# Altium schematic symbol library MCU_MICROCHIP_SAM.SchLib: 3 symbols
Pins are listed as number, name and electrical type; pins without a type are passive.

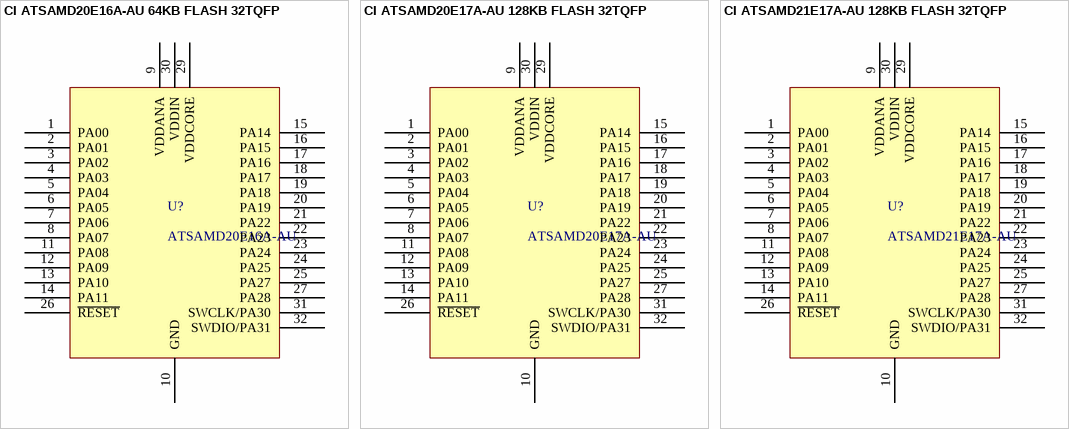
[diagram p0: symbols CI ATSAMD20E16A-AU 64KB FLASH 32TQFP to CI ATSAMD21E17A-AU 128KB FLASH 32TQFP]

## CI ATSAMD20E16A-AU 64KB FLASH 32TQFP
designator U?, comment ATSAMD20E16A-AU
ARM® Cortex®-M0+ SAM D20E Microcontroller IC 32-Bit 48MHz 64KB (64K x 8) FLASH 32-TQFP (7x7); Manufacturer 1: Microchip Technology; Part Number 1: ATSAMD20E16A-AU; Supplier 1: Digi-Key; Supplier 2: Future Electronics; Supplier Part Number 2: ATSAMD20E16A-AU-TRAY; Supplier Part Number 1: ATSAMD20E16A-AU-ND
footprint TQFP-32_7x7mm_P0.8mm (32-Lead Plastic Thin Quad Flatpack (PT) - 7x7x1.0 mm Body, 2.00 mm [TQFP])
pins: 1 PA00, 2 PA01, 3 PA02, 4 PA03, 5 PA04, 6 PA05, 7 PA06, 8 PA07, 9 VDDANA, 10 GND, 11 PA08, 12 PA09, 13 PA10, 14 PA11, 15 PA14, 16 PA15, 17 PA16, 18 PA17, 19 PA18, 20 PA19, 21 PA22, 22 PA23, 23 PA24, 24 PA25, 25 PA27, 26 ~{RESET}, 27 PA28, 28 GND hidden to GND, 29 VDDCORE, 30 VDDIN, 31 SWCLK/PA30, 32 SWDIO/PA31

## CI ATSAMD20E17A-AU 128KB FLASH 32TQFP
designator U?, comment ATSAMD20E17A-AU
ARM® Cortex®-M0+ SAM D20E Microcontroller IC 32-Bit 48MHz 128KB (128K x 8) FLASH 32-TQFP (7x7); Manufacturer 1: Microchip Technology; Part Number 1: ATSAMD20E17A-AU; Supplier 1: Digi-Key; Supplier 2: RSComponents; Supplier 3: Mouser; Supplier 4: Future Electronics; Supplier 5: Arrow; Supplier Part Number 5: ATSAMD20E17A-AU; Supplier Part Number 4: ATSAMD20E17A-AU-TRAY; Supplier Part Number 3: 556-ATSAMD20E17A-AU; Supplier Part Number 2: 1773468; Supplier Part Number 1: ATSAMD20E17A-AU-ND
footprint TQFP-32_7x7mm_P0.8mm (32-Lead Plastic Thin Quad Flatpack (PT) - 7x7x1.0 mm Body, 2.00 mm [TQFP])
pins: 1 PA00, 2 PA01, 3 PA02, 4 PA03, 5 PA04, 6 PA05, 7 PA06, 8 PA07, 9 VDDANA, 10 GND, 11 PA08, 12 PA09, 13 PA10, 14 PA11, 15 PA14, 16 PA15, 17 PA16, 18 PA17, 19 PA18, 20 PA19, 21 PA22, 22 PA23, 23 PA24, 24 PA25, 25 PA27, 26 ~{RESET}, 27 PA28, 28 GND hidden to GND, 29 VDDCORE, 30 VDDIN, 31 SWCLK/PA30, 32 SWDIO/PA31

## CI ATSAMD21E17A-AU 128KB FLASH 32TQFP
designator U?, comment ATSAMD21E17A-AU
ARM® Cortex®-M0+ SAM D21E Microcontroller IC 32-Bit 48MHz 128KB (128K x 8) FLASH 32-TQFP (7x7); Manufacturer 1: Microchip Technology; Part Number 1: ATSAMD21E17A-AU; Supplier 1: Digi-Key; Supplier 2: Mouser; Supplier 3: Arrow; Supplier Part Number 3: ATSAMD21E17A-AU; Supplier Part Number 2: 556-ATSAMD21E17A-AU; Supplier Part Number 1: ATSAMD21E17A-AU-ND
footprint TQFP-32_7x7mm_P0.8mm (32-Lead Plastic Thin Quad Flatpack (PT) - 7x7x1.0 mm Body, 2.00 mm [TQFP])
pins: 1 PA00, 2 PA01, 3 PA02, 4 PA03, 5 PA04, 6 PA05, 7 PA06, 8 PA07, 9 VDDANA, 10 GND, 11 PA08, 12 PA09, 13 PA10, 14 PA11, 15 PA14, 16 PA15, 17 PA16, 18 PA17, 19 PA18, 20 PA19, 21 PA22, 22 PA23, 23 PA24, 24 PA25, 25 PA27, 26 ~{RESET}, 27 PA28, 28 GND hidden to GND, 29 VDDCORE, 30 VDDIN, 31 SWCLK/PA30, 32 SWDIO/PA31